# EAGLE library part LM386-3 (library BME_Components)
Low Voltage Audio Power Amplifier, 0 to 70 degC, 8-pin DIP (P8)
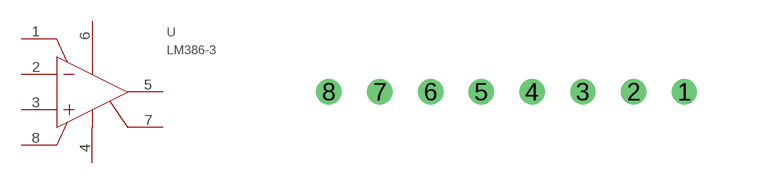
[diagram p10: symbol with the pads of LM386-3_PDIP-8; footprint LM386-3_PDIP-8]

Designator prefix U

## LM386-3LM386-3_LM386-3_PDIP-8 (CODE_JEDEC: MS-001; COMPONENTLINK1DESCRIPTION: Manufacturer URL; COMPONENTLINK1URL: http://www.ti.com/; COMPONENTLINK2DESCRIPTION: Datasheet; COMPONENTLINK3DESCRIPTION: Package Specification; COMPONENTLINK3URL: http://www.ti.com/litv/pdf/mpdi001b; DATASHEETVERSION: SNAS545A; INPUT_TYPE: Analog; MANUFACTURER: Texas Instruments; MAX._NUMBER_OF_SPEAKER_OUTPUTS: 1; MOUNTING_TECHNOLOGY: Through Hole; PACKAGEDESCRIPTION: 8-Pin Plastic In-Line, Body 9.59 x 6.35 mm, Pitch 2.54 mm; PACKAGEREFERENCE: P8; PACKAGEVERSION: 4040082/E, 04/2010; PARTNUMBER: LM386N-3; SUBFAMILY: Mid/High-Power Amplifier)  [LM386-3_PDIP-8]
1  GAIN  in
2  IN-  in
3  IN+  in
4  GND  pwr
5  VOUT  out
6  VS  pwr
7  BYPASS  pas
8  GAIN  in

## Footprint LM386-3_PDIP-8 (pad centres in mm)
drill 0.127 pad 0.254 round: 1 8.89,0; 2 7.62,0; 3 6.35,0; 4 5.08,0; 5 3.81,0; 6 2.54,0; 7 1.27,0; 8 0,0